# Altium schematic symbol library MAX25603AUI_V+.SchLib: 1 symbol
Pins are listed as number, name and electrical type; pins without a type are passive.

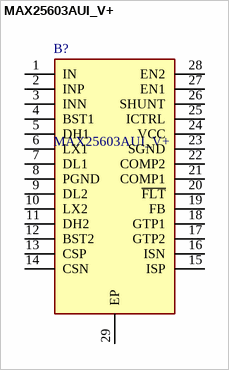
[diagram p0: symbol MAX25603AUI_V+]

## MAX25603AUI_V+
designator B?
Automotive Four-Switch Buck-Boost LED Controller for Combination Head Lights; Manufacturer_Name: Analog Devices; Manufacturer_Part_Number: MAX25603AUI/V+; Geometry.Height: 1.1mm; Mouser Part Number: 700-MAX25603AUI/V+; Mouser Price/Stock: https://www.mouser.co.uk/ProductDetail/Analog-Devices-Maxim-Integrated/MAX25603AUI-V%2b?qs=doiCPypUmgFX06DpQbFwEw%3D%3D; Arrow Part Number: *; Arrow Price/Stock: *; Datasheet Link: https://www.analog.com/MAX25603/datasheet
footprint SOP65P640X110-29N
pins: 1 IN, 2 INP, 3 INN, 4 BST1, 5 DH1, 6 LX1, 7 DL1, 8 PGND, 9 DL2, 10 LX2, 11 DH2, 12 BST2, 13 CSP, 14 CSN, 15 ISP, 16 ISN, 17 GTP2, 18 GTP1, 19 FB, 20 ~{FLT}, 21 COMP1, 22 COMP2, 23 SGND, 24 VCC, 25 ICTRL, 26 SHUNT, 27 EN1, 28 EN2, 29 EP